# Altium schematic symbol library Integrated_Library.SCHLIB: 4 symbols
Pins are listed as number, name and electrical type; pins without a type are passive.

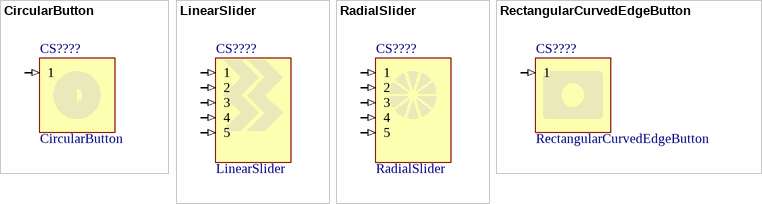
[diagram p0: symbols CircularButton to RectangularCurvedEdgeButton]

## CircularButton
designator CS????  (no BOM)
ConfiguratorName: CYPRESS_TOUCH; ConfigurationParameters: {}__sensorid[CircularButton]{}
pins: 1 (in)

## LinearSlider
designator CS????  (no BOM)
ConfiguratorName: CYPRESS_TOUCH; ConfigurationParameters: {}__sensorid[LinearSlider]{}
pins: 1 (in), 2 (in), 3 (in), 4 (in), 5 (in)

## RadialSlider
designator CS????  (no BOM)
ConfiguratorName: CYPRESS_TOUCH; ConfigurationParameters: {}__sensorid[RadialSlider]{}
pins: 1 (in), 2 (in), 3 (in), 4 (in), 5 (in)

## RectangularCurvedEdgeButton
designator CS????  (no BOM)
ConfiguratorName: CYPRESS_TOUCH; ConfigurationParameters: {}__sensorid[RectangularCurvedEdgeButton]{}
pins: 1 (in)